# Altium footprint library TC2117_3V3_SOT230.PcbLib: 2 footprints
Each footprint in its own frame and in the unit in brackets; x right, y up, seen from the top. Pads: shape width x height; smd on the part's side, far side on the other; paste and mask are expansions set on the pad; w line width, h text height; cw(c..) or ccw(c..) is an arc to the next point about the centre after c.
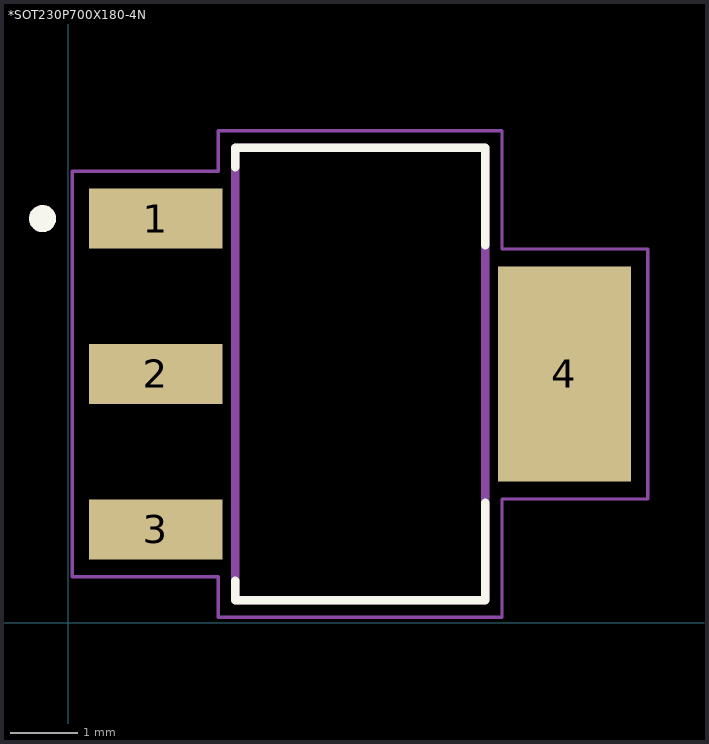
[diagram p0: the footprints below, top view; thin cyan lines are the x and y axes]

## *SOT230P700X180-4N [mm]
pads (4):
  rect 1.97x0.89 smd: 1(1.293,5.983) 2(1.293,3.683) 3(1.293,1.383)
  rect 1.97x3.19 smd: 4(7.343,3.683)
Top Overlay:
  circle w0.2: c-0.382,5.983 r0.1
  lines w0.127: 2.468,0.623 2.468,0.333 6.168,0.333 6.168,1.773 ; 2.468,6.743 2.468,7.033 6.168,7.033 6.168,5.593
Mechanical 4:
  circle w0.2: c-0.382,5.983 r0.1
  circle w0.2: c-0.382,5.983 r0.1
  lines w0.127: 2.468,0.333 6.168,0.333 ; 2.468,0.333 2.468,7.033 ; 2.468,0.333 6.168,0.333 ; 2.468,0.333 2.468,7.033 ; 2.468,7.033 6.168,7.033 ; 2.468,7.033 6.168,7.033 ; 6.168,0.333 6.168,7.033 ; 6.168,0.333 6.168,7.033
Mechanical 16:
  lines w0.05: 0.058,0.683 0.058,6.683 2.218,6.683 2.218,7.283 6.418,7.283 6.418,5.533 8.578,5.533 8.578,1.833 6.418,1.833 6.418,0.083 2.218,0.083 2.218,0.683 0.058,0.683

## PCBComponent_1 [mil]